# EAGLE library part RJ11-BUCHSE (library FSEWeatherShield)
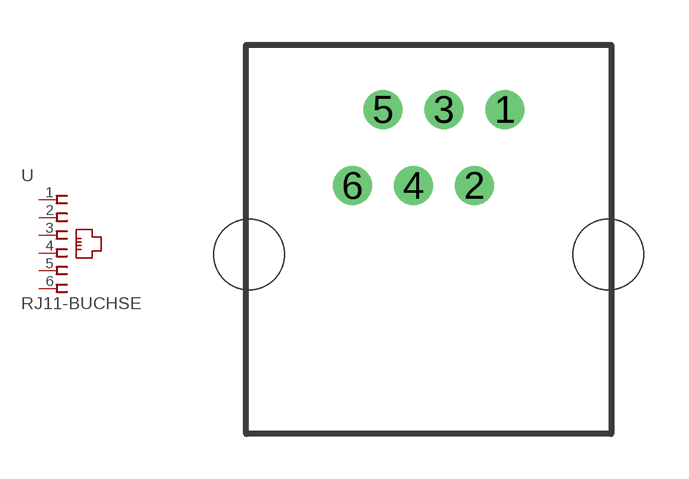
[diagram p3: symbol with the pads of RJ11-STECKER; footprint RJ11-STECKER]

Designator prefix -

## RJ11-BUCHSE  [RJ11-STECKER]
1  1  pas
2  2  pas
3  3  pas
4  4  pas
5  5  pas
6  6  pas

## Footprint RJ11-STECKER (pad centres in mm)
drill 0.8 pad 1.3: 1 8.65,10.84; 2 7.63,8.3; 3 6.61,10.84; 4 5.59,8.3; 5 4.57,10.84; 6 3.55,8.3
hole 2.36 at 0.1,6
hole 2.36 at 12.1,6